# Altium schematic symbol library ADC122S101CIMMNOPB.SchLib: 2 symbols
Pins are listed as number, name and electrical type; pins without a type are passive.

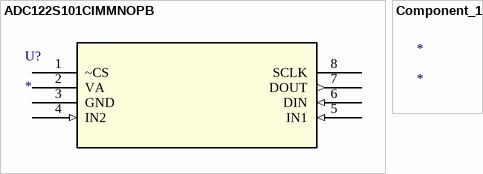
[diagram p0: symbols ADC122S101CIMMNOPB to Component_1]

## ADC122S101CIMMNOPB
designator U?
No Description Available; Mfr_Name: Texas Instruments; Type: ADC122S101CIMM; RefDes: RefDes
footprint MUA08A
pins: 1 ~CS, 2 VA, 3 GND, 4 IN2 (in), 5 IN1 (in), 6 DIN (in), 7 DOUT (out), 8 SCLK

## Component_1
designator *